# Altium schematic symbol library TQP369184.SchLib: 1 symbol
Pins are listed as number, name and electrical type; pins without a type are passive.

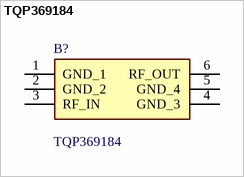
[diagram p0: symbol TQP369184]

## TQP369184
designator B?
DC  6 GHz Gain Block; Manufacturer_Name: Qorvo; Geometry.Height: 1.1mm; Mouser Part Number: 772-TQP369184; Mouser Price/Stock: https://www.mouser.co.uk/ProductDetail/Qorvo/TQP369184?qs=opBjA1TV900HByuIeJCWsQ%3D%3D; Manufacturer_Part_Number: TQP369184; Datasheet Link: https://www.qorvo.com/products/d/da005471
footprint SOT65P210X110-6N
pins: 1 GND_1, 2 GND_2, 3 RF_IN, 4 GND_3, 5 GND_4, 6 RF_OUT